# Altium footprint library PcbLib1.PcbLib: 20 footprints (part 2 of 2)
Each footprint in its own frame and in the unit in brackets; x right, y up, seen from the top. Pads: shape width x height; smd on the part's side, far side on the other; paste and mask are expansions set on the pad; w line width, h text height; cw(c..) or ccw(c..) is an arc to the next point about the centre after c.
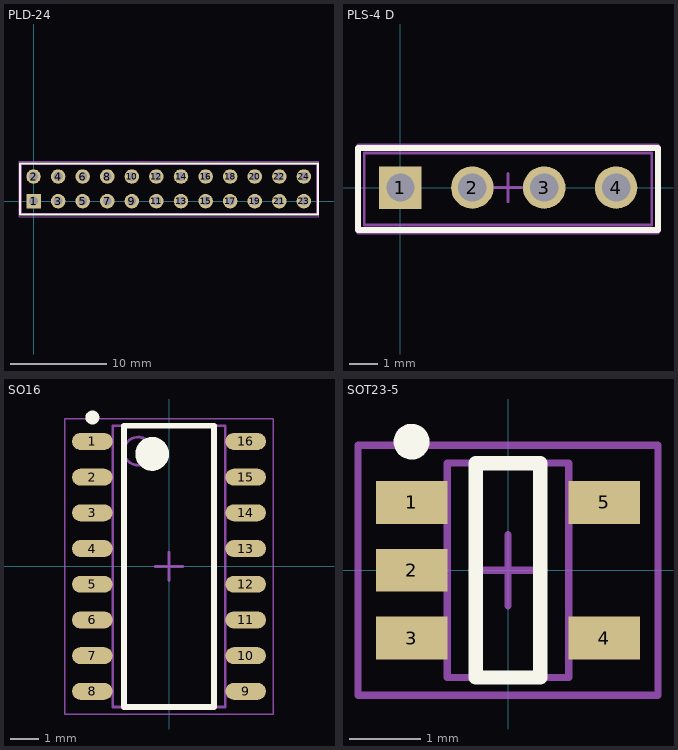
[diagram p1: the footprints below, top view; thin cyan lines are the x and y axes]

## PLD-24 [mm]
pads (24):
  rect 1.5x1.5 hole 0.9: 1(0,0)
  round 1.5 hole 0.9: 2(0,2.54) 3(2.54,0) 4(2.54,2.54) 5(5.08,0) 6(5.08,2.54) 7(7.62,0) 8(7.62,2.54) 9(10.16,0) 10(10.16,2.54) 11(12.7,0) 12(12.7,2.54) 13(15.24,0) 14(15.24,2.54) 15(17.78,0) 16(17.78,2.54) 17(20.32,0) 18(20.32,2.54) 19(22.86,0) 20(22.86,2.54) 21(25.4,0) 22(25.4,2.54) 23(27.94,0) 24(27.94,2.54)
Top Overlay:
  lines w0.2: -1.4,-1.4 29.4,-1.4 29.4,3.9 -1.4,3.9 -1.4,-1.4
Mechanical 13:
  lines w0.1: -1.22,-1.28 29.26,-1.28 29.26,3.8 -1.22,3.8 -1.22,-1.28
Mechanical 15:
  lines w0.1: -1.5,-1.6 -1.5,4.1 29.5,4.1 29.5,-1.6 -1.5,-1.6
3D body "PLS-2.STEP": height 8.8, standoff -3, extent 26.72,-1.28 29.26,3.8
3D body "PLS-2.STEP": height 8.8, standoff -3, extent 24.18,-1.28 26.72,3.8
3D body "PLS-2.STEP": height 8.8, standoff -3, extent 21.64,-1.28 24.18,3.8
3D body "PLS-2.STEP": height 8.8, standoff -3, extent 19.1,-1.28 21.64,3.8
3D body "PLS-2.STEP": height 8.8, standoff -3, extent 16.56,-1.28 19.1,3.8
3D body "PLS-2.STEP": height 8.8, standoff -3, extent 14.02,-1.28 16.56,3.8
3D body "PLS-2.STEP": height 8.8, standoff -3, extent 11.48,-1.28 14.02,3.8
3D body "PLS-2.STEP": height 8.8, standoff -3, extent 8.94,-1.28 11.48,3.8
3D body "PLS-2.STEP": height 8.8, standoff -3, extent 6.4,-1.28 8.94,3.8
3D body "PLS-2.STEP": height 8.8, standoff -3, extent 3.86,-1.28 6.4,3.8
3D body "PLS-2.STEP": height 8.8, standoff -3, extent 1.32,-1.28 3.86,3.8
3D body "PLS-2.STEP": height 8.8, standoff -3, extent -1.22,-1.28 1.32,3.8

## PLS-4 D [mm]
pads (4):
  rect 1.5x1.5 hole 1: 1(0,0)
  round 1.5 hole 1: 2(2.54,0) 3(5.08,0) 4(7.62,0)
Top Overlay:
  lines w0.2: -1.5,-1.5 -1.5,1.4 9.1,1.4 9.1,-1.5 -1.5,-1.5
Mechanical 13:
  lines w0.1: -1.28,-1.32 8.88,-1.32 8.88,1.22 -1.28,1.22 -1.28,-1.32
Mechanical 15:
  lines w0.1: 3.3,0 4.3,0 ; 3.8,-0.5 3.8,0.5 ; -1.5,-1.6 9.1,-1.6 9.1,1.5 -1.5,1.5 -1.5,-1.6
3D body "PLS-2.STEP": height 8.8, standoff -3, extent 3.8,-1.32 8.88,1.22
3D body "PLS-2.STEP": height 8.8, standoff -3, extent -1.28,-1.32 3.8,1.22

## SO16 [mm] "SOIC, 16-Leads, Body 9,90x3,90mm, Pitch 1,27mm, IPC Medium Density"
height 1.75
pads (16):
  oval 1.45x0.6 smd: 1(-2.725,4.445) 2(-2.725,3.175) 3(-2.725,1.905) 4(-2.725,0.635) 5(-2.725,-0.635) 6(-2.725,-1.905) 7(-2.725,-3.175) 8(-2.725,-4.445) 9(2.725,-4.445) 10(2.725,-3.175) 11(2.725,-1.905) 12(2.725,-0.635) 13(2.725,0.635) 14(2.725,1.905) 15(2.725,3.175) 16(2.725,4.445)
Top Overlay:
  circle w0.25: c-2.725,5.295 r0.125
  circle w0.6: c-0.6,4 r0.3
  lines w0.2: -1.6,-5 -1.6,5 1.6,5 1.6,-5 -1.6,-5
Mechanical 13:
  circle w0.1: c-1.1,4.1 r0.5
  lines w0.1: -2,-5 -2,5 2,5 2,-5 -2,-5
Mechanical 15:
  lines w0.05: -3.7,-5.25 -3.7,5.25 3.7,5.25 3.7,-5.25 -3.7,-5.25
  lines w0.1: -0.5,0 0.5,0 ; 0,-0.5 0,0.5
3D body: height 1.75, standoff 0.1, extent -2,-5 2,5

## SOT23-5 [mm] "SOT23, 5-Leads, Body 2,90x2,80mm, Pitch 0,95mm, IPC Medium Density"
height 1.45
pads (5):
  rect 1x0.6 smd: 1(-1.35,0.95) 2(-1.35,0) 3(-1.35,-0.95) 4(1.35,-0.95) 5(1.35,0.95)
Top Overlay:
  circle w0.25: c-1.35,1.8 r0.125
  lines w0.2: -0.45,-1.5 0.45,-1.5 0.45,1.5 -0.45,1.5 -0.45,-1.5
Mechanical 13:
  lines w0.1: -0.85,-1.5 -0.85,1.5 0.85,1.5 0.85,-1.5 -0.85,-1.5
Mechanical 15:
  lines w0.1: -0.5,0 0.5,0 ; 0,-0.5 0,0.5 ; -2.1,-1.75 -2.1,1.75 2.1,1.75 2.1,-1.75 -2.1,-1.75
3D body: height 1.45, standoff 0.05, extent -0.85,-1.5 0.85,1.5